# Altium schematic symbol library IND,1.2mH,300mA,Wirewound,Radial,Thru.Schlib: 1 symbol
Pins are listed as number, name and electrical type; pins without a type are passive.

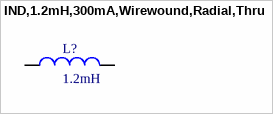
[diagram p0: symbol IND,1.2mH,300mA,Wirewound,Radial,Thru]

## IND,1.2mH,300mA,Wirewound,Radial,Thru
designator L?, comment 1.2mH
1.2 mH Unshielded Wirewound Inductor 300 mA 4Ohm Radial, Vertical Cylinder
pins: 1, 2